# Altium integrated library Power ICs.IntLib: 2 symbols
Pins are listed as number, name and electrical type; pins without a type are passive.

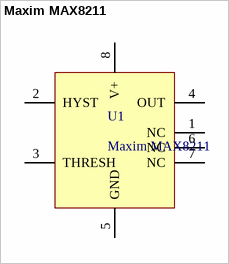
[diagram p0: symbol Maxim MAX8211]

## Maxim MAX8211
designator U1
footprint Maxim MAX8211 (MFG: MAX8211CSA+ Digikey: MAX8211CSA+-ND)
pins: 1 NC, 2 HYST, 3 THRESH, 4 OUT, 5 GND, 6 NC, 7 NC, 8 V+


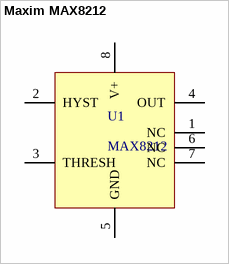
[diagram p1: symbol Maxim MAX8212]

## Maxim MAX8212
designator U1, comment MAX8212
Supplier 1: Digi-Key; Supplier Part Number 1: MAX8212CSA+-ND
footprint Maxim MAX8212 (MFG: MAX8212CSA+ Digikey:  MAX8212CSA+-ND)
pins: 1 NC, 2 HYST, 3 THRESH, 4 OUT, 5 GND, 6 NC, 7 NC, 8 V+